# Altium schematic symbol library NC7WZ07P6X.SchLib: 1 symbol
Pins are listed as number, name and electrical type; pins without a type are passive.

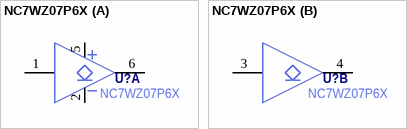
[diagram p0: symbol NC7WZ07P6X]

## NC7WZ07P6X
designator U?
part A pins: 1 NC hidden, 1 A1, 2 GND, 5 VCC, 6 Y1
part B pins: 3 A2, 4 Y2